# Altium integrated library DISCRETE.IntLib: 1 symbol
Pins are listed as number, name and electrical type; pins without a type are passive.

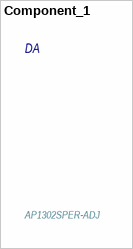
[diagram p0: symbol Component_1]

## Component_1
designator DA, comment AP1302SPER-ADJ
LDO-регулятор SOIC8-EP; Manufacturer: Chipown; Manufacturer Part Number: AP1302SPER-ADJ; Component Type: Микросхема
footprint SOIC8E